# EAGLE library part DS8-50 (library impellimax-drivers)
Please contact factory for your specific package and pinout needs. www.impellimax.com 603-886-9569
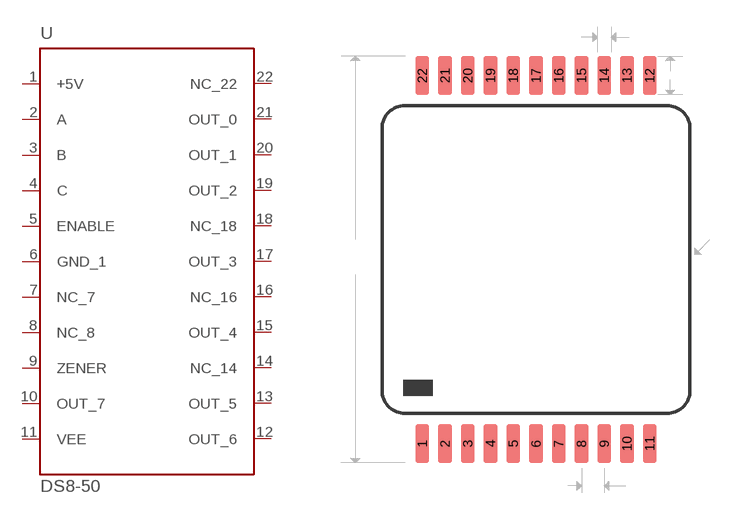
[diagram p17: symbol with the pads of 7408_C130; footprint 7408_C130]

Designator prefix U

## DS8-50  [7408_C130]
1  +5V  in
2  A  in
3  B  in
4  C  in
5  ENABLE  pas
6  GND_1  in
7  NC_7  in
8  NC_8  in
9  ZENER  in
10  OUT_7  in
11  VEE  pas
12  OUT_6  in
13  OUT_5  in
14  NC_14  in
15  OUT_4  in
16  NC_16  in
17  OUT_3  in
18  NC_18  in
19  OUT_2  in
20  OUT_1  in
21  OUT_0  in
22  NC_22  in

## Footprint 7408_C130 (pad centres in mm)
package .645 max square actual lead to lead length .865 max not leadformed, seat package in thru-hole lead width .016, land pattern width .030
smd 0.762 x 2.159: 1 -6.351,-10.289; 2 -5.081,-10.285; 3 -3.811,-10.289; 4 -2.541,-10.285; 5 -1.269,-10.287; 6 0.001,-10.29; 7 1.267,-10.287; 8 2.538,-10.29; 9 3.809,-10.287; 10 5.079,-10.289; 11 6.349,-10.285; 12 6.349,10.289; 13 5.079,10.285; 14 3.808,10.285; 15 2.538,10.285; 16 1.268,10.285; 17 0.001,10.285; 18 -1.272,10.285; 19 -2.542,10.285; 20 -3.812,10.285; 21 -5.081,10.289; 22 -6.351,10.285